# Altium schematic symbol library NCV8730ASN330T1G.SchLib: 1 symbol
Pins are listed as number, name and electrical type; pins without a type are passive.

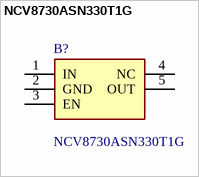
[diagram p0: symbol NCV8730ASN330T1G]

## NCV8730ASN330T1G
designator B?
LDO Regulator Pos 3.3V 0.15A Automotive 5-Pin TSOP T/R; Manufacturer_Name: onsemi; Geometry.Height: 1.1mm; Manufacturer_Part_Number: NCV8730ASN330T1G; Mouser Part Number: 863-NCV8730ASN330T1G; Mouser Price/Stock: https://www.mouser.co.uk/ProductDetail/onsemi/NCV8730ASN330T1G?qs=GedFDFLaBXG9IOwczGXdzg%3D%3D; Arrow Part Number: NCV8730ASN330T1G; Arrow Price/Stock: https://www.arrow.com/en/products/ncv8730asn330t1g/on-semiconductor?region=nac; Datasheet Link: https://datasheet.datasheetarchive.com/originals/distributors/Datasheets_SAMA/2df29e4e0191e431728827d4926d2a47.pdf
footprint SOT95P275X110-5N
pins: 1 IN, 2 GND, 3 EN, 4 NC, 5 OUT